# Altium schematic symbol library DRV8242SQRHLRQ1.SchLib: 2 symbols
Pins are listed as number, name and electrical type; pins without a type are passive.

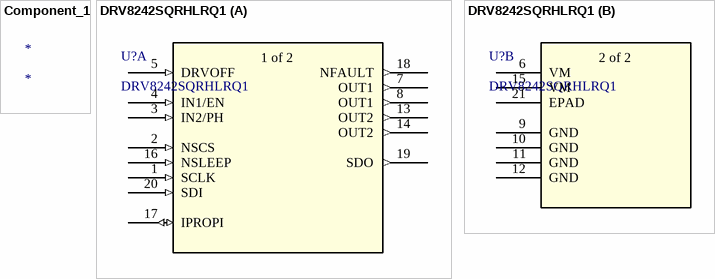
[diagram p0: symbols Component_1 to DRV8242SQRHLRQ1]

## Component_1
designator *

## DRV8242SQRHLRQ1
designator U?
Automotive, 40-V 6-A H-bridge driver with integrated current sensing and feedback 20-VQFN -40 to 125; Manufacturer_Name: Texas Instruments; Type: Power Management; Copyright: Copyright (C) 2025 Ultra Librarian. All rights reserved.; Manufacturer_Part_Number: DRV8242SQRHLRQ1; Datasheet: https://www.ti.com/lit/gpn/drv8242-q1; RefDes: RefDes
footprint VQFN20_RHL_TEX
part A pins: 1 SCLK (in), 2 NSCS (in), 3 IN2/PH (in), 4 IN1/EN (in), 5 DRVOFF (in), 7 OUT1 (out), 8 OUT1 (out), 13 OUT2 (out), 14 OUT2 (out), 16 NSLEEP (in), 17 IPROPI (io), 18 NFAULT (out), 19 SDO (out), 20 SDI (in)
part B pins: 6 VM (power), 9 GND (power), 10 GND (power), 11 GND (power), 12 GND (power), 15 VM (power), 21 EPAD (power)
part A text: 1 of 2
part B text: 2 of 2